# EAGLE library part EABC80 (library E88CC)
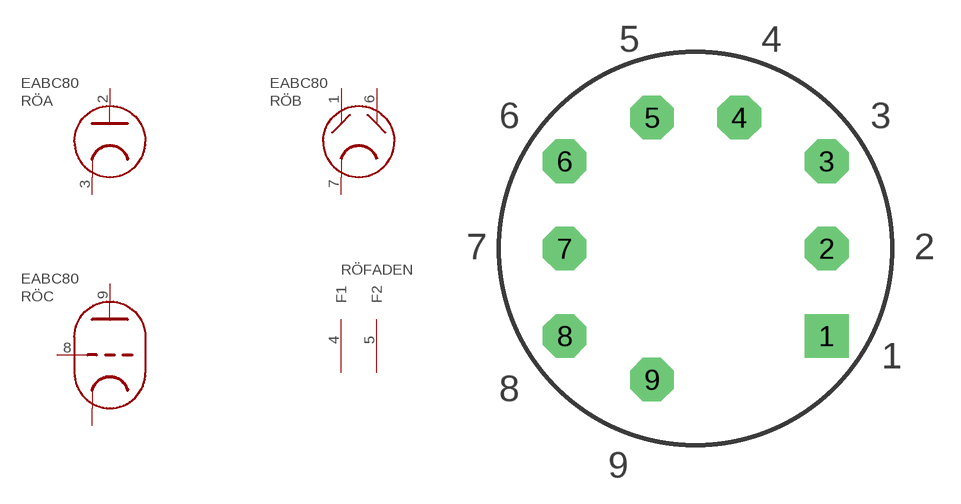
[diagram p4: symbol with the pads of NOVAL_P; footprint NOVAL_P]

Designator prefix RÖ; gates A=DIODE B=DUODIODE C=TRIODE FADEN=FADEN

## EABC80  [NOVAL_P]
1  B:A1  out
2  A:A  out
3  A:K
4  FADEN:F1  pwr
5  FADEN:F2  pwr
6  B:A2  out
7  B:K
8  C:G  in
9  C:A  out

## Footprint NOVAL_P (pad centres in mm)
drill 1 pad 2.54 square: 1 7.62,-5.08
drill 1 pad 2.54 octagon: 2 7.62,0; 3 7.62,5.08; 4 2.54,7.62; 5 -2.54,7.62; 6 -7.62,5.08; 7 -7.62,0; 8 -7.62,-5.08; 9 -2.54,-7.62